# Altium schematic symbol library TMP1075NDRLR.SchLib: 1 symbol
Pins are listed as number, name and electrical type; pins without a type are passive.

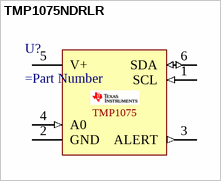
[diagram p0: symbol TMP1075NDRLR]

## TMP1075NDRLR
designator U?
=Description
pins: 1 SCL (in), 2 GND (power), 3 ALERT (out), 4 A0 (in), 5 V+ (power), 6 SDA (io)
text: TMP1075